# EAGLE library part 16_PIN_CON (library 11_pin_connecterp)
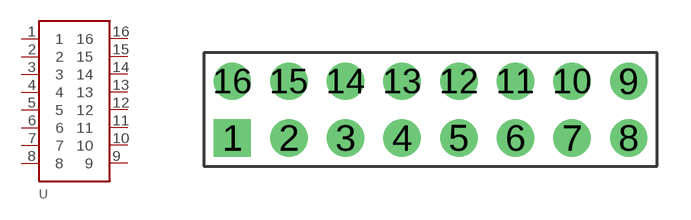
[diagram p1: symbol with the pads of 16_PIN; footprint 16_PIN]

Designator prefix -

## 16_PIN_CON  [16_PIN]
1  1
2  2
3  3
4  4
5  5
6  6
7  7
8  8
9  9
10  10
11  11
12  12
13  13
14  14
15  15
16  16

## Footprint 16_PIN (pad centres in mm)
drill 0.9 pad 1.676 square: 1 -8.89,-1.27
drill 0.9 pad 1.676: 2 -6.35,-1.27; 3 -3.81,-1.27; 4 -1.27,-1.27; 5 1.27,-1.27; 6 3.81,-1.27; 7 6.35,-1.27; 8 8.89,-1.27; 9 8.89,1.27; 10 6.35,1.27; 11 3.81,1.27; 12 1.27,1.27; 13 -1.27,1.27; 14 -3.81,1.27; 15 -6.35,1.27; 16 -8.89,1.27